# EAGLE library part CON-HIROSE-DF12 (library arducorder-mini)
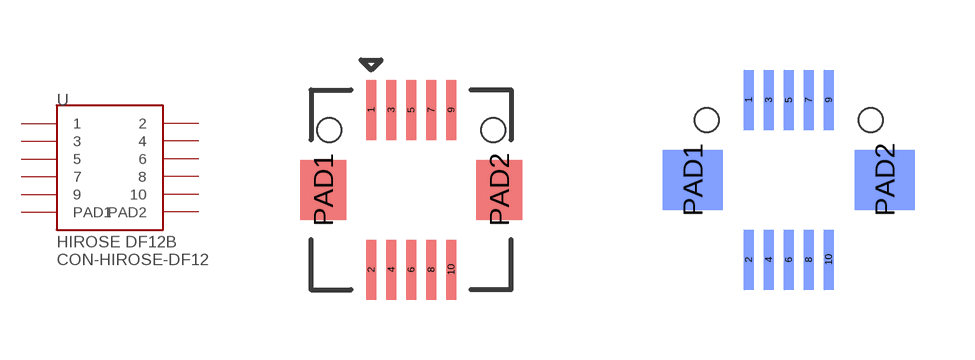
[diagram p3: symbol with the pads of DF12B(3.0)-10DP-0.5V(86); footprints DF12B(3.0)-10DP-0.5V(86), DF12B(3.0)-10DS-0.5V(86)]

Designator prefix -

## CON-HIROSE-DF12FEMALE  [DF12B(3.0)-10DP-0.5V(86)]
1  1
2  2
3  3
4  4
5  5
6  6
7  7
8  8
9  9
10  10
PAD1  PAD1
PAD2  PAD2

## CON-HIROSE-DF12MALE  [DF12B(3.0)-10DS-0.5V(86)]
Pads as for DF12B(3.0)-10DP-0.5V(86)

## CON-HIROSE-DF12MALE_NODRILL  [DF12(3.0)-10DS-0.5V(86)]
Pads as for DF12B(3.0)-10DP-0.5V(86)

## Footprint DF12B(3.0)-10DP-0.5V(86) (pad centres in mm)
smd 0.25 x 1.5: 1 -1,2; 2 -1,-2; 3 -0.5,2; 4 -0.5,-2; 5 0,2; 6 0,-2; 7 0.5,2; 8 0.5,-2; 9 1,2; 10 1,-2
smd 1.15 x 1.5: PAD1 -2.2,0; PAD2 2.2,0
hole 0.6 at -2.05,1.5
hole 0.6 at 2.05,1.5

## Footprint DF12B(3.0)-10DS-0.5V(86) (pad centres in mm)
smd 0.25 x 1.5 bottom: 1 -1,2; 2 -1,-2; 3 -0.5,2; 4 -0.5,-2; 5 0,2; 6 0,-2; 7 0.5,2; 8 0.5,-2; 9 1,2; 10 1,-2
smd 1.5 x 1.5 bottom: PAD1 -2.4,0; PAD2 2.4,0
hole 0.6 at 2.05,1.5
hole 0.6 at -2.05,1.5

## Footprint DF12(3.0)-10DS-0.5V(86) (pad centres in mm)
smd 0.25 x 1.5 bottom: 1 -1,2; 2 -1,-2; 3 -0.5,2; 4 -0.5,-2; 5 0,2; 6 0,-2; 7 0.5,2; 8 0.5,-2; 9 1,2; 10 1,-2
smd 1.5 x 1.5 bottom: PAD1 -2.5,0; PAD2 2.5,0